# EAGLE library part AD8137 (library analog-devices)
Differential ADC Driver Low Cost, Low Power 12-Bit
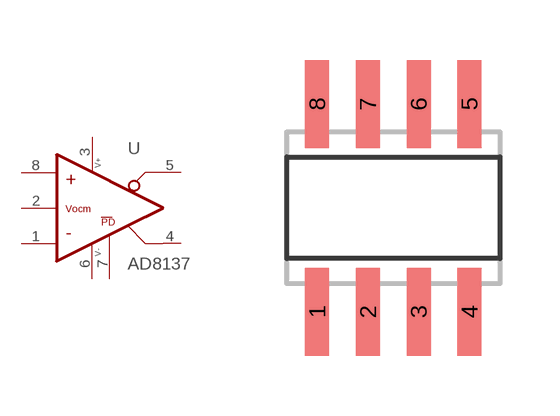
[diagram p25: symbol with the pads of SO08; footprint SO08]

Designator prefix U

## AD8137 (P1I: o)  [SO08]
1  -IN  in
2  VOCM  in
3  V+  pas
4  OUT+  out
5  OUT-  out
6  V-  pas
7  PD  in
8  +IN  in

## Footprint SO08 (pad centres in mm)
SMALL OUTLINE INTEGRATED CIRCUIT body 3.9 mm/JEDEC MS-012AA
smd 0.6 x 2.2: 1 -1.905,-2.6; 2 -0.635,-2.6; 3 0.635,-2.6; 4 1.905,-2.6; 5 1.905,2.6; 6 0.635,2.6; 7 -0.635,2.6; 8 -1.905,2.6